# Altium schematic symbol library voltageRef.SchLib: 1 symbol
Pins are listed as number, name and electrical type; pins without a type are passive.

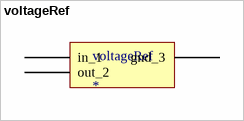
[diagram p0: symbol voltageRef]

## voltageRef
designator voltageRef
footprint SOT95P280X140-3N (SOT23, 3-Leads, Body 2.90x2.80mm, Pitch 0.95mm, IPC Medium Density)
pins: gnd_3, in_1, out_2